# Altium schematic symbol library MAX2673.Schlib: 1 symbol
Pins are listed as number, name and electrical type; pins without a type are passive.

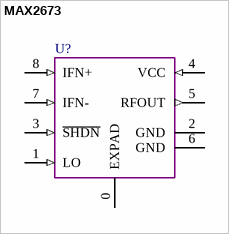
[diagram p0: symbol MAX2673]

## MAX2673
designator U?  (value not drawn)
400MHz to 2.5GHz Upconverter Mixers
pins: 0 EXPAD, 1 LO (in), 2 GND (power), 3 ~{SHDN} (in), 4 VCC (in), 5 RFOUT (out), 6 GND (power), 7 IFN- (in), 8 IFN+ (in)
2 alternate drawings of the same symbol